# Altium footprint library Chip_Capacitor_M.PcbLib: 24 footprints (part 1 of 2)
Each footprint in its own frame and in the unit in brackets; x right, y up, seen from the top. Pads: shape width x height; smd on the part's side, far side on the other; paste and mask are expansions set on the pad; w line width, h text height; cw(c..) or ccw(c..) is an arc to the next point about the centre after c.
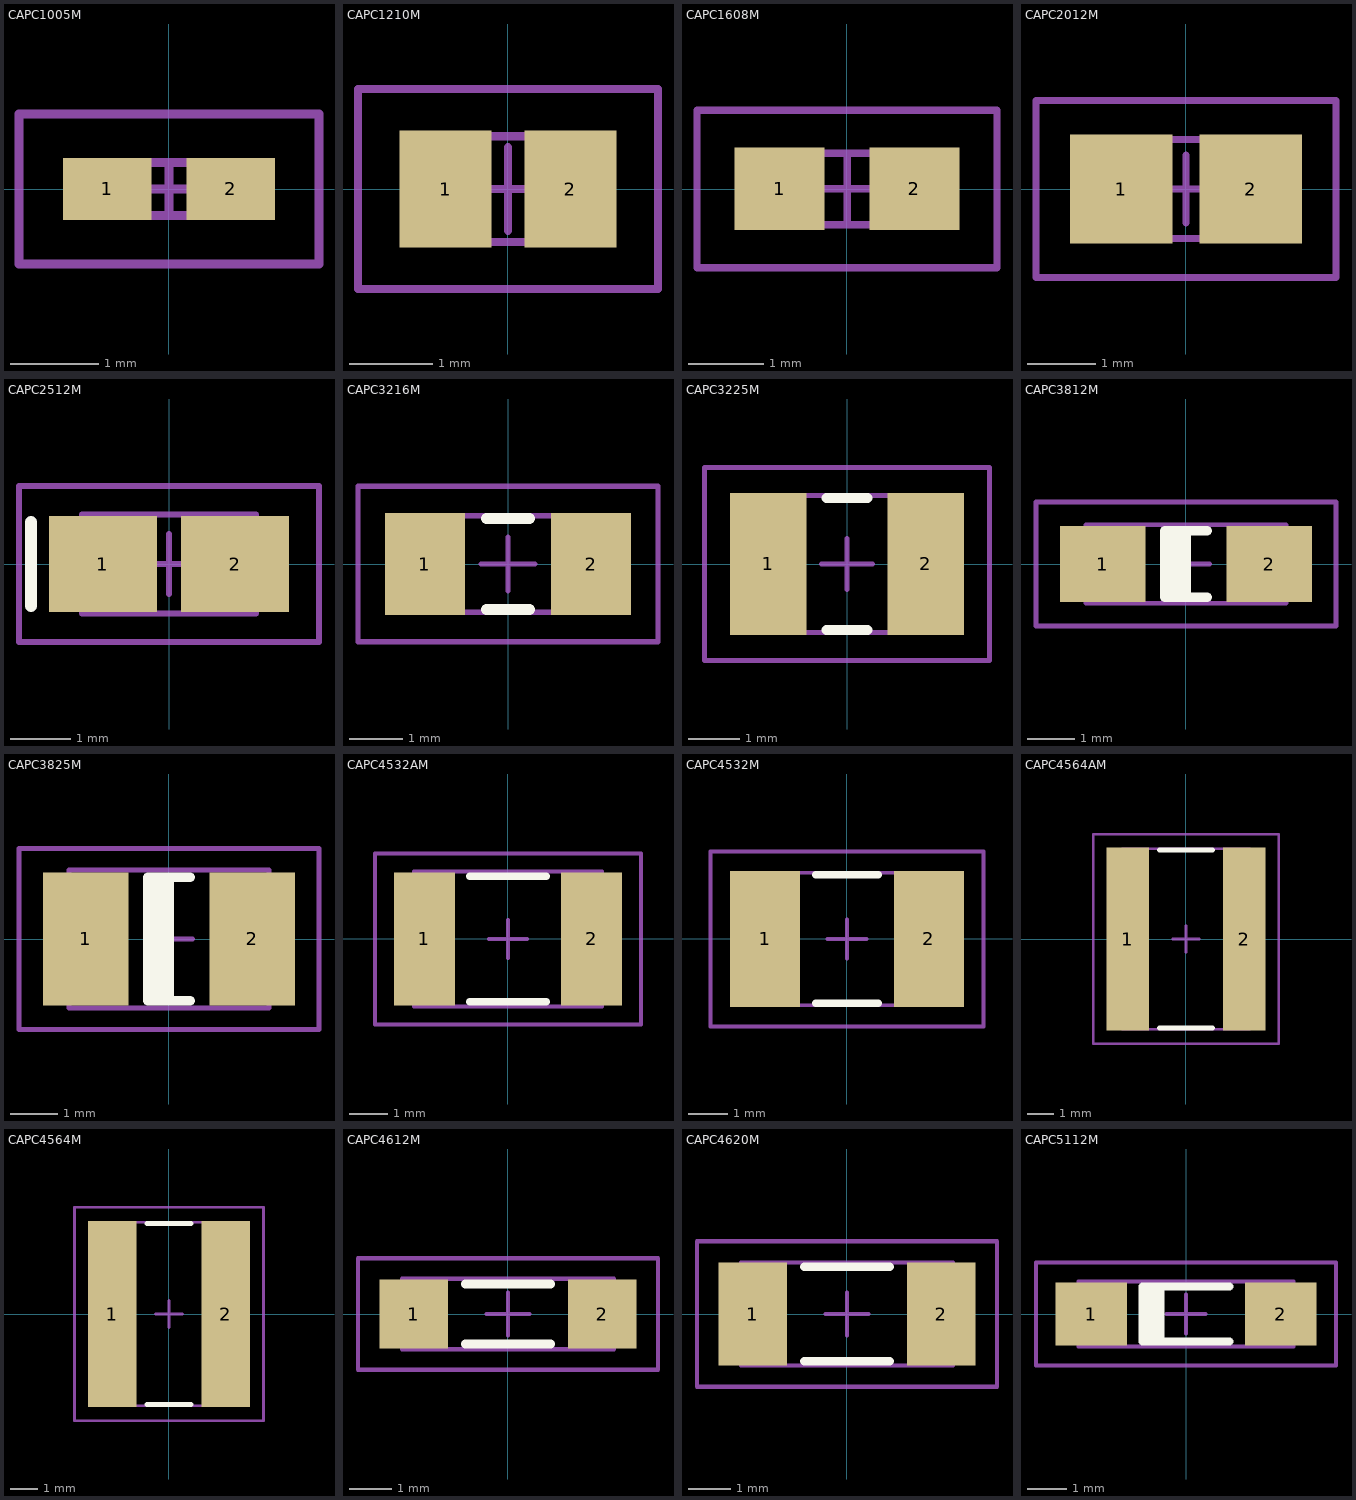
[diagram p0: the footprints below, top view; thin cyan lines are the x and y axes]

## CAPC1005M [mm] "Chip Capacitor, Body 1.0x0.5mm, IPC Low Density"
height 0.6
pads (2):
  rect 1x0.7 smd: 1(-0.7,0) 2(0.7,0)
Mechanical 13:
  lines w0.1: -0.55,-0.3 -0.55,0.3 0.55,0.3 0.55,-0.3 -0.55,-0.3
Mechanical 15:
  lines w0.1: -0.3,0 0.3,0 ; 0,-0.3 0,0.3 ; -1.7,-0.85 -1.7,0.85 1.7,0.85 1.7,-0.85 -1.7,-0.85
3D body: height 0.6, standoff 0, extent -0.55,-0.3 0.55,0.3

## CAPC1210M [mm] "Chip Capacitor, Body 1.2x1.0mm, IPC Low Density"
height 1.02
pads (2):
  rect 1.1x1.4 smd: 1(-0.75,0) 2(0.75,0)
Mechanical 13:
  lines w0.1: -0.66,-0.635 0.66,-0.635 0.66,0.635 -0.66,0.635 -0.66,-0.635
Mechanical 15:
  lines w0.1: -0.5,0 0.5,0 ; 0,-0.5 0,0.5 ; -1.8,-1.2 1.8,-1.2 1.8,1.2 -1.8,1.2 -1.8,-1.2
3D body: height 1.02, standoff 0, extent -0.66,-0.635 0.66,0.635

## CAPC1608M [mm] "Chip Capacitor, Body 1.6x0.8mm, IPC Low Density"
height 0.85
pads (2):
  rect 1.2x1.1 smd: 1(-0.9,0) 2(0.9,0)
Mechanical 13:
  lines w0.1: -0.875,-0.475 0.875,-0.475 0.875,0.475 -0.875,0.475 -0.875,-0.475
Mechanical 15:
  lines w0.1: -0.475,0 0.475,0 ; 0,-0.475 0,0.475 ; -2,-1.05 2,-1.05 2,1.05 -2,1.05 -2,-1.05
3D body: height 0.85, standoff 0, extent -0.875,-0.475 0.875,0.475

## CAPC2012M [mm] "Chip Capacitor, Body 2.0x1.3mm, IPC Low Density"
height 1.1
pads (2):
  rect 1.5x1.6 smd: 1(-0.95,0) 2(0.95,0)
Mechanical 13:
  lines w0.1: -1.1,-0.725 1.1,-0.725 1.1,0.725 -1.1,0.725 -1.1,-0.725
Mechanical 15:
  lines w0.1: -0.5,0 0.5,0 ; 0,-0.5 0,0.5 ; -2.2,-1.3 2.2,-1.3 2.2,1.3 -2.2,1.3 -2.2,-1.3
3D body: height 1.1, standoff 0, extent -1.1,-0.725 1.1,0.725

## CAPC2512M [mm] "Chip Capacitor, Body 2.54x1.27mm, IPC Low Density"
height 1.66
pads (2):
  rect 1.8x1.6 smd: 1(-1.1,0) 2(1.1,0)
Top Overlay:
  lines w0.2: -2.3,-0.7 -2.3,0.7
Mechanical 13:
  lines w0.1: -1.45,-0.825 1.45,-0.825 1.45,0.825 -1.45,0.825 -1.45,-0.825
Mechanical 15:
  lines w0.1: -0.5,0 0.5,0 ; 0,-0.5 0,0.5 ; -2.5,-1.3 2.5,-1.3 2.5,1.3 -2.5,1.3 -2.5,-1.3
3D body: height 1.66, standoff 0, extent -1.45,-0.825 1.45,0.825

## CAPC3216M [mm] "Chip Capacitor, Body 3.2x1.6mm, IPC Low Density"
height 1.35
pads (2):
  rect 1.5x1.9 smd: 1(-1.55,0) 2(1.55,0)
Top Overlay:
  lines w0.2: -0.4,-0.85 0.4,-0.85 ; -0.4,0.85 0.4,0.85
Mechanical 13:
  lines w0.1: -1.7,-0.9 1.7,-0.9 1.7,0.9 -1.7,0.9 -1.7,-0.9
Mechanical 15:
  lines w0.1: -0.5,0 0.5,0 ; 0,-0.5 0,0.5 ; -2.8,-1.45 2.8,-1.45 2.8,1.45 -2.8,1.45 -2.8,-1.45
3D body: height 1.35, standoff 0, extent -1.7,-0.9 1.7,0.9

## CAPC3225M [mm] "Chip Capacitor, Body 3.2x2.5mm, IPC Low Density"
height 1.35
pads (2):
  rect 1.5x2.8 smd: 1(-1.55,0) 2(1.55,0)
Top Overlay:
  lines w0.2: -0.4,-1.3 0.4,-1.3 ; -0.4,1.3 0.4,1.3
Mechanical 13:
  lines w0.1: -1.7,-1.35 1.7,-1.35 1.7,1.35 -1.7,1.35 -1.7,-1.35
Mechanical 15:
  lines w0.1: -0.5,0 0.5,0 ; 0,-0.5 0,0.5 ; -2.8,-1.9 2.8,-1.9 2.8,1.9 -2.8,1.9 -2.8,-1.9
3D body: height 1.35, standoff 0, extent -1.7,-1.35 1.7,1.35

## CAPC3812M [mm] "Chip Capacitor, Body 3.81x1.27mm, IPC Low Density"
height 1.66
pads (2):
  rect 1.8x1.6 smd: 1(-1.75,0) 2(1.75,0)
Top Overlay:
  rectangle: -0.45,-0.7 0.1,0.7
  lines w0.2: 0.45,-0.7 -0.45,-0.7 -0.45,0.7 0.45,0.7
Mechanical 13:
  lines w0.1: -2.1,-0.825 2.1,-0.825 2.1,0.825 -2.1,0.825 -2.1,-0.825
Mechanical 15:
  lines w0.1: -0.5,0 0.5,0 ; 0,-0.5 0,0.5 ; -3.15,-1.3 3.15,-1.3 3.15,1.3 -3.15,1.3 -3.15,-1.3
3D body: height 1.66, standoff 0, extent -2.1,-0.825 2.1,0.825

## CAPC3825M [mm] "Chip Capacitor, Body 3.81x2.54mm, IPC Low Density"
height 1.66
pads (2):
  rect 1.8x2.8 smd: 1(-1.75,0) 2(1.75,0)
Top Overlay:
  rectangle: -0.45,-1.3 0.1,1.3
  lines w0.2: 0.45,-1.3 -0.45,-1.3 -0.45,1.3 0.45,1.3
Mechanical 13:
  lines w0.1: -2.1,-1.45 2.1,-1.45 2.1,1.45 -2.1,1.45 -2.1,-1.45
Mechanical 15:
  lines w0.1: -0.5,0 0.5,0 ; 0,-0.5 0,0.5 ; -3.15,-1.9 3.15,-1.9 3.15,1.9 -3.15,1.9 -3.15,-1.9
3D body: height 1.66, standoff 0, extent -2.1,-1.45 2.1,1.45

## CAPC4532AM [mm] "Chip Capacitor, Body 4.5x3.2mm, IPC Low Density"
height 2.03
pads (2):
  rect 1.6x3.5 smd: 1(-2.2,0) 2(2.2,0)
Top Overlay:
  lines w0.2: -1,-1.65 1,-1.65 ; -1,1.65 1,1.65
Mechanical 13:
  lines w0.1: -2.475,-1.78 -2.475,1.78 2.475,1.78 2.475,-1.78 -2.475,-1.78
Mechanical 15:
  lines w0.1: -0.5,0 0.5,0 ; 0,-0.5 0,0.5 ; -3.5,-2.25 -3.5,2.25 3.5,2.25 3.5,-2.25 -3.5,-2.25
3D body: height 2.03, standoff 0, extent -2.475,-1.78 2.475,1.78

## CAPC4532M [mm] "Chip Capacitor, Body 4.5x3.2mm, IPC Low Density"
height 1.35
pads (2):
  rect 1.8x3.5 smd: 1(-2.1,0) 2(2.1,0)
Top Overlay:
  lines w0.2: -0.8,-1.65 0.8,-1.65 ; -0.8,1.65 0.8,1.65
Mechanical 13:
  lines w0.1: -2.4,-1.7 2.4,-1.7 2.4,1.7 -2.4,1.7 -2.4,-1.7
Mechanical 15:
  lines w0.1: -0.5,0 0.5,0 ; 0,-0.5 0,0.5 ; -3.5,-2.25 3.5,-2.25 3.5,2.25 -3.5,2.25 -3.5,-2.25
3D body: height 1.35, standoff 0, extent -2.4,-1.7 2.4,1.7

## CAPC4564AM [mm] "Chip Capacitor, Body 4.5x6.4mm, IPC Low Density"
height 2.03
pads (2):
  rect 1.6x6.9 smd: 1(-2.2,0) 2(2.2,0)
Top Overlay:
  lines w0.2: -1,-3.35 1,-3.35 ; -1,3.35 1,3.35
Mechanical 13:
  lines w0.1: -2.4,-3.4 -2.4,3.4 2.4,3.4 2.4,-3.4 -2.4,-3.4
Mechanical 15:
  lines w0.1: -0.5,0 0.5,0 ; 0,-0.5 0,0.5 ; -3.5,-3.95 -3.5,3.95 3.5,3.95 3.5,-3.95 -3.5,-3.95
3D body: height 2.03, standoff 0, extent -2.4,-3.4 2.4,3.4

## CAPC4564M [mm] "Chip Capacitor, Body 4.5x6.4mm, IPC Low Density"
height 1.1
pads (2):
  rect 1.8x6.9 smd: 1(-2.1,0) 2(2.1,0)
Top Overlay:
  lines w0.2: -0.8,-3.35 0.8,-3.35 ; -0.8,3.35 0.8,3.35
Mechanical 13:
  lines w0.1: -2.4,-3.4 2.4,-3.4 2.4,3.4 -2.4,3.4 -2.4,-3.4
Mechanical 15:
  lines w0.1: -0.5,0 0.5,0 ; 0,-0.5 0,0.5 ; -3.5,-3.95 3.5,-3.95 3.5,3.95 -3.5,3.95 -3.5,-3.95
3D body: height 1.1, standoff 0, extent -2.4,-3.4 2.4,3.4

## CAPC4612M [mm] "Chip Capacitor, Body 4.57x1.27mm, IPC Low Density"
height 1.4
pads (2):
  rect 1.6x1.6 smd: 1(-2.2,0) 2(2.2,0)
Top Overlay:
  lines w0.2: -1,-0.7 1,-0.7 ; -1,0.7 1,0.7
Mechanical 13:
  lines w0.1: -2.475,-0.825 2.475,-0.825 2.475,0.825 -2.475,0.825 -2.475,-0.825
Mechanical 15:
  lines w0.1: -0.5,0 0.5,0 ; 0,-0.5 0,0.5 ; -3.5,-1.3 3.5,-1.3 3.5,1.3 -3.5,1.3 -3.5,-1.3
3D body: height 1.4, standoff 0, extent -2.475,-0.825 2.475,0.825

## CAPC4620M [mm] "Chip Capacitor, Body 4.6x2.0mm, IPC Low Density"
height 2.03
pads (2):
  rect 1.6x2.4 smd: 1(-2.2,0) 2(2.2,0)
Top Overlay:
  lines w0.2: -1,-1.1 1,-1.1 ; -1,1.1 1,1.1
Mechanical 13:
  lines w0.1: -2.475,-1.2 2.475,-1.2 2.475,1.2 -2.475,1.2 -2.475,-1.2
Mechanical 15:
  lines w0.1: -0.5,0 0.5,0 ; 0,-0.5 0,0.5 ; -3.5,-1.7 3.5,-1.7 3.5,1.7 -3.5,1.7 -3.5,-1.7
3D body: height 2.03, standoff 0, extent -2.475,-1.2 2.475,1.2

## CAPC5112M [mm] "Chip Capacitor, Body 5.08x1.27mm, IPC Low Density"
height 1.66
pads (2):
  rect 1.8x1.6 smd: 1(-2.4,0) 2(2.4,0)
Top Overlay:
  rectangle: -1.1,-0.7 -0.55,0.7
  lines w0.2: 1.1,-0.7 -1.1,-0.7 -1.1,0.7 1.1,0.7
Mechanical 13:
  lines w0.1: -2.73,-0.825 2.73,-0.825 2.73,0.825 -2.73,0.825 -2.73,-0.825
Mechanical 15:
  lines w0.1: -0.5,0 0.5,0 ; 0,-0.5 0,0.5 ; -3.8,-1.3 3.8,-1.3 3.8,1.3 -3.8,1.3 -3.8,-1.3
3D body: height 1.66, standoff 0, extent -2.73,-0.825 2.73,0.825